# EAGLE library part H11AA1M (library ZMPLC)
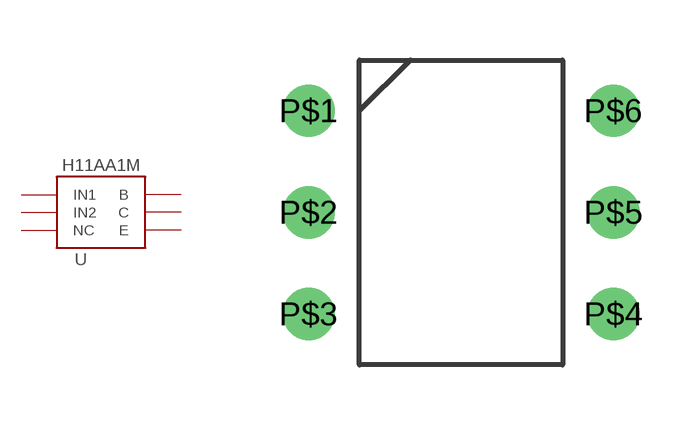
[diagram p21: symbol with the pads of DIP6; footprint DIP6]

Designator prefix -

## H11AA1M  [DIP6]
P$1  IN1  pas
P$2  IN2  pas
P$3  NC  nc
P$4  E  pas
P$5  C
P$6  B  pas

## Footprint DIP6 (pad centres in mm)
drill 0.8: P$1 0,0; P$2 0,-2.54; P$3 0,-5.08; P$4 7.62,-5.08; P$5 7.62,-2.54; P$6 7.62,0